# Altium footprint library SIM800L.PcbLib: 1 footprints
Each footprint in its own frame and in the unit in brackets; x right, y up, seen from the top. Pads: shape width x height; smd on the part's side, far side on the other; paste and mask are expansions set on the pad; w line width, h text height; cw(c..) or ccw(c..) is an arc to the next point about the centre after c.
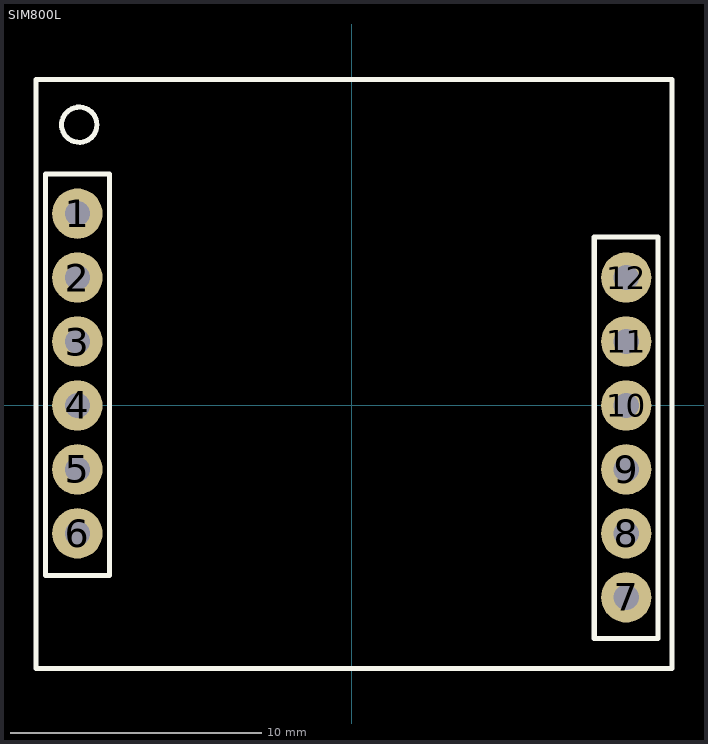
[diagram p0: the footprint, top view; thin cyan lines are the x and y axes]

## SIM800L [mm]
height 6
pads (12):
  round 2 hole 1: 1(-10.9,7.62) 2(-10.9,5.08) 3(-10.9,2.54) 4(-10.9,0) 5(-10.9,-2.54) 6(-10.9,-5.08) 7(10.9,-7.62) 8(10.9,-5.08) 9(10.9,-2.54) 10(10.9,0) 11(10.9,2.54) 12(10.9,5.08)
Top Overlay:
  circle w0.2: c-10.825,11.15 r0.7
  lines w0.2: -12.55,-10.45 12.725,-10.45 12.725,12.95 -12.55,12.95 -12.55,-10.45 ; -12.17,-6.75 -12.17,9.2 -9.63,9.2 -9.63,-6.75 -12.17,-6.75 ; 9.63,-9.25 12.17,-9.25 12.17,6.7 9.63,6.7 9.63,-9.25
3D body: height 9.2, standoff -2.5, extent -13.575,8.305 -13.575,8.305
3D body: height 9.2, standoff -2.5, extent 4.225,-9.22 4.225,-9.22
3D body: height 9.2, standoff -2.5, extent -2.275,-9.445 -2.275,-9.445
3D body: height 9.2, standoff -2.5, extent -11.475,-9.195 -11.475,-9.195
3D body: height 1.9, standoff 0, extent 13.5,8.03 13.5,8.03
3D body: height 1.9, standoff 0, extent 13.5,8.03 13.5,8.03
3D body "User Library-module_sim800l.STEP": height 8.1, standoff -4.4, extent -12.412,-10.322 12.588,12.812